# Altium footprint library VSSOP-8 2.3x2.3mm.PcbLib: 1 footprints
Each footprint in its own frame and in the unit in brackets; x right, y up, seen from the top. Pads: shape width x height; smd on the part's side, far side on the other; paste and mask are expansions set on the pad; w line width, h text height; cw(c..) or ccw(c..) is an arc to the next point about the centre after c.
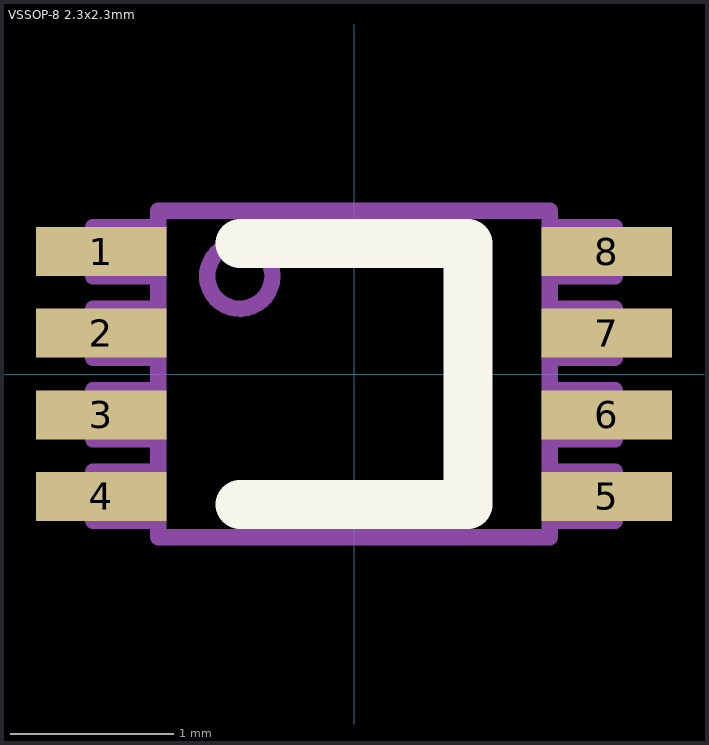
[diagram p0: the footprint, top view; thin cyan lines are the x and y axes]

## VSSOP-8 2.3x2.3mm [mm]
pads (8):
  rect 0.8x0.3 smd: 1(-1.55,0.75) 2(-1.55,0.25) 3(-1.55,-0.25) 4(-1.55,-0.75) 5(1.55,-0.75) 6(1.55,-0.25) 7(1.55,0.25) 8(1.55,0.75)
Top Overlay:
  lines w0.3: -0.7,-0.8 0.7,-0.8 0.7,0.8 -0.7,0.8
Top Assy SMD:
  circle w0.1: c-0.7,0.6 r0.2
  lines w0.1: -1.437,-0.8 -1.437,-0.687 ; -1.437,-0.3 -1.437,-0.187 ; -1.437,0.2 -1.437,0.313 ; -1.437,0.7 -1.437,0.813 ; -1.2,-0.9 -1.6,-0.9 -1.6,-0.6 -1.2,-0.6 ; -1.2,-0.4 -1.6,-0.4 -1.6,-0.1 -1.2,-0.1 ; -1.2,0.1 -1.6,0.1 -1.6,0.4 -1.2,0.4 ; -1.2,0.6 -1.6,0.6 -1.6,0.9 -1.2,0.9 ; 1.2,-0.9 1.6,-0.9 1.6,-0.6 1.2,-0.6 ; 1.2,-0.4 1.6,-0.4 1.6,-0.1 1.2,-0.1 ; 1.2,0.1 1.6,0.1 1.6,0.4 1.2,0.4 ; 1.2,0.6 1.6,0.6 1.6,0.9 1.2,0.9 ; 1.437,-0.8 1.437,-0.687 ; 1.437,-0.3 1.437,-0.187 ; 1.437,0.2 1.437,0.313 ; 1.437,0.7 1.437,0.813 ; -1.2,-1 -1.2,1 1.2,1 1.2,-1 -1.2,-1
  text "'.Comment'" at -1.2,-0.9 h0.7
  text "'.Designator'" at -1.5,1.2 h1
3D body "SOP127P600-8N.step": height 0.75, standoff 0, extent -1.549,-1.05 1.549,1.05